# Altium schematic symbol library nnts.SchLib: 62 symbols (part 3 of 3)
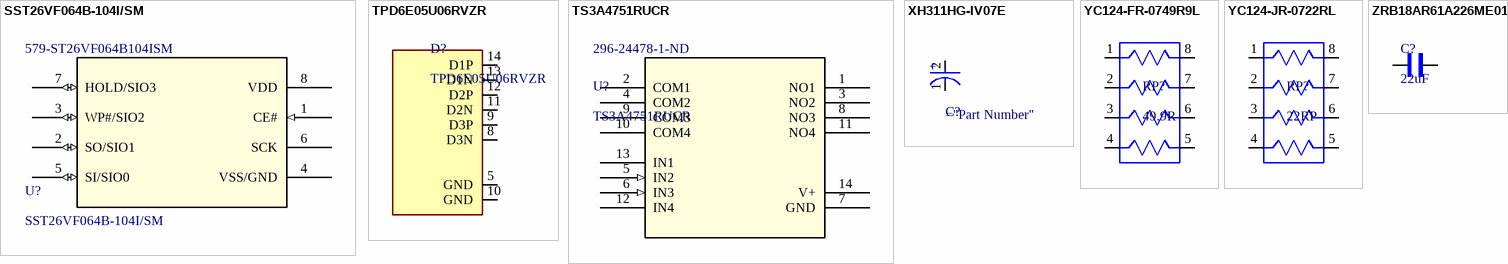
[diagram p4: symbols SST26VF064B-104I/SM to ZRB18AR61A226ME01L]

## YC124-JR-0722RL
designator RP?, comment 22RP
RES ARRAY 4 RES 22 OHM 0804; Manufacturer: Yageo; Manufacturer Part Number: YC124-JR-0722RL; Number of Terminals/Pins: 8; Number of Circuits: 4; Resistance: 22R; Tolerance: 5%; Power Rating: 62.5mW; Voltage Rating: 50V; Circuit Type: Isolated; Temperature Coefficient: 200ppm/°C; Supplier 1: Digi-Key; RoHS: Yes; Category: Resistor Arrays; Stock 1: 239833; Pricing 1: 1=0.10000, 10=0.07100, 25=0.05120, 50=0.03900, 100=0.02880, 250=0.02196, 500=0.01756, 1000=0.01293, 5000=0.00927 (USD); Mount: Surface Mount; Case/Package: 0402; Number of Pins: 8; Case Code (Metric): 1005; Case Code (Imperial): 0402; Min Operating Temperature: -55°C; Max Operating Temperature: 155°C; Number of Contacts: 8; Package Quantity: 1; Packaging: Tape and Reel; Number of Elements: 4; Number of Resistors: 4; Power Per Element: 62.5mW; Termination: Convex; Power Dissipation: 62.5mW; Working Voltage: 50V; Length: 0.079inch; Width: 0.039inch; Height: 0.022inch; Terminal Pitch: 0.5mm; Depth: 1mm; Lead Free: Lead Free; REACH SVHC: Unknown; Military Standard: Not; ComponentLink1URL: https://datasheet.ciiva.com/2688/pyu-yc-tc124-51-rohs-l-3-2688672.pdf?src-supplier=Digi-Key; ComponentLink1Description: https://datasheet.ciiva.com/2688/pyu-yc-tc124-51-rohs-l-3-2688672.pdf?src-supplier=Digi-Key; ComponentLink2URL: https://datasheet.ciiva.com/2688/pyu-yc-tc124-51-rohs-l-3-2688673.pdf?src-supplier=Digi-Key; ComponentLink2Description: https://datasheet.ciiva.com/2688/pyu-yc-tc124-51-rohs-l-3-2688673.pdf?src-supplier=Digi-Key; ComponentLink3URL: https://datasheet.ciiva.com/8017/1508227-8017861.pdf?src-supplier=Element14; ComponentLink3Description: https://datasheet.ciiva.com/8017/1508227-8017861.pdf?src-supplier=Element14; ComponentLink4URL: https://datasheet.ciiva.com/7620/442851-7620729.pdf?src-supplier=Element14; ComponentLink4Description: https://datasheet.ciiva.com/7620/442851-7620729.pdf?src-supplier=Element14; ComponentLink5URL: https://datasheet.ciiva.com/8017/1508227-8017862.pdf?src-supplier=Element14; ComponentLink5Description: https://datasheet.ciiva.com/8017/1508227-8017862.pdf?src-supplier=Element14; ComponentLink6URL: https://datasheet.ciiva.com/17067/pyu-yc-tc124-51-rohs-l-3-17067068.pdf?src-supplier=Future+Electronics; ComponentLink6Description: https://datasheet.ciiva.com/17067/pyu-yc-tc124-51-rohs-l-3-17067068.pdf?src-supplier=Future+Electronics; ComponentLink7URL: https://datasheet.ciiva.com/2688/pyu-yc-tc124-51-rohs-l-3-2688671.pdf?src-supplier=Digi-Key; ComponentLink7Description: https://datasheet.ciiva.com/2688/pyu-yc-tc124-51-rohs-l-3-2688671.pdf?src-supplier=Digi-Key; Supplier Part Number 1: YC124J-22CT-ND
footprint RESCAXS50P200X100X55-8N
pins: 1, 2, 3, 4, 5, 6, 7, 8

## ZRB18AR61A226ME01L
designator C?, comment 22uF
0603 22 uF 10 V ±20% Tolerance X5R Surface Mount Multilayer Ceramic Capacitor; Manufacturer: Murata; Manufacturer Part Number: ZRB18AR61A226ME01L; Voltage Rating: 10V; Supplier 1: Mouser; RoHS: No; Category: Ceramic Capacitors; Stock 1: 179696; Pricing 1: 1=0.44000, 10=0.30400, 100=0.18300, 500=0.13700, 1000=0.11600, 3000=0.09500 (USD); Mount: Surface Mount; Case/Package: 0603; Min Operating Temperature: -55°C; Max Operating Temperature: 85°C; Packaging: Tape and Reel; Capacitance: 22uF; Tolerance: 20%; ComponentLink1URL: http://search.murata.co.jp/Ceramy/image/img/A01X/G101/ENG/ZRB18AR61A226ME01-02.pdf?src-supplier=Digi-Key; ComponentLink1Description: http://search.murata.co.jp/Ceramy/image/img/A01X/G101/ENG/ZRB18AR61A226ME01-02.pdf?src-supplier=Digi-Key; Supplier Part Number 1: 81-ZRB18AR61A226ME1L
footprint C0603
pins: 1, 2